# Altium footprint library led_PcbLib.PcbLib: 3 footprints
Each footprint in its own frame and in the unit in brackets; x right, y up, seen from the top. Pads: shape width x height; smd on the part's side, far side on the other; paste and mask are expansions set on the pad; w line width, h text height; cw(c..) or ccw(c..) is an arc to the next point about the centre after c.
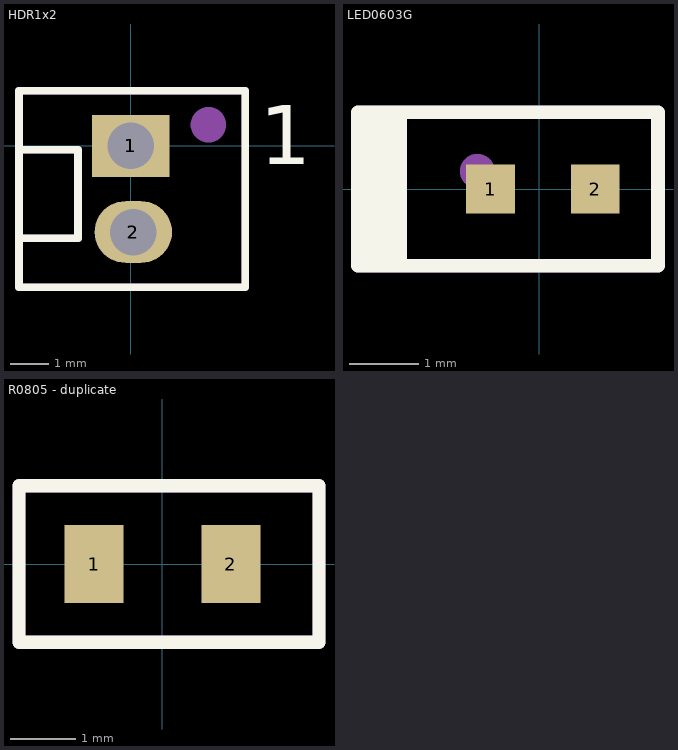
[diagram p0: the footprints below, top view; thin cyan lines are the x and y axes]

## HDR1x2 [mm]
pads (4):
  rect 2x1.6 hole 1.2: 1(0,0) 1(0,0)
  oval 2x1.6 hole 1.2: 2(0.064,-2.222) 2(0.064,-2.222)
Top Overlay:
  lines w0.2: -2.889,-2.381 -1.365,-2.381 -1.365,-0.095 -2.889,-0.095 ; -2.889,-3.651 2.953,-3.651 2.953,1.429 -2.889,1.429 -2.889,-3.651
  text "1" at 3.334,-0.476 h1.52
Top Assembly:
  circle w0.508: c2.001,0.549 r0.203
  lines w0.2: -2.889,-3.651 2.953,-3.651 ; -2.889,-3.651 -2.889,1.429 ; -2.889,-3.651 2.953,-3.651 ; -2.889,-3.651 -2.889,1.429 ; -2.889,1.429 2.953,1.429 ; -2.889,1.429 2.953,1.429 ; -1.365,-2.381 -2.889,-2.381 -1.365,-2.381 ; -1.365,-2.381 -1.365,-0.095 ; -1.365,-2.381 -1.365,-0.095 ; -1.365,-0.095 -2.889,-0.095 -1.365,-0.095 ; 2.953,-3.651 2.953,1.429 ; 2.953,-3.651 2.953,1.429
  text ".Designator" at -5.458,-1.511 h1.2
3D body "0022272021--3DModel-STEP-269445.STEP": height 11.07, standoff -4.19, extent -2.848,-3.651 2.952,1.429

## LED0603G [mm]
pads (2):
  rect 0.7x0.7 smd: 1(-0.7,0) 2(0.8,0)
Top Overlay:
  rectangle: -2.6,-1.1 -1.9,1.1
  lines w0.2: -2.6,-1.1 -2.6,1.1 1.7,1.1 1.7,-1.1 -2.6,-1.1
Top Assembly:
  circle w0.3: c-0.889,0.254 r0.1
  rectangle: -2.6,-1.1 -1.9,1.1
  lines w0.2: -2.6,-1.1 -2.6,1.1 1.7,1.1 1.7,-1.1 -2.6,-1.1
  text ".Designator" at -3.245,-0.233 h0.7
3D body "led.STEP": height 0.59, standoff 0.01, extent -0.8,-0.4 0.8,0.4

## R0805 - duplicate [mm]
pads (2):
  rect 0.9x1.2 smd: 1(-1.05,0) 2(1.05,0)
Top Overlay:
  lines w0.2: -2.2,-1.2 2.4,-1.2 2.4,1.2 -2.2,1.2 -2.2,-1.2
Top Assembly:
  lines w0.2: -2.2,-1.2 2.4,-1.2 2.4,1.2 -2.2,1.2 -2.2,-1.2
  text ".Designator" at -3.499,-0.233 h0.7
3D body "AC0805FR-07360RL.STEP": height 0.61, standoff 0.01, extent -1,-0.625 1,0.625